# Altium schematic symbol library HTS221.SchLib: 1 symbol
Pins are listed as number, name and electrical type; pins without a type are passive.

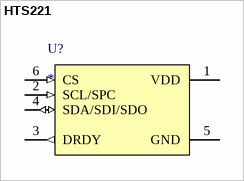
[diagram p0: symbol HTS221]

## HTS221
designator U?
The HTS221 is an ultra compact sensor for  relative humidity and temperature
pins: 1 VDD (power), 2 SCL/SPC (in), 3 DRDY (out), 4 SDA/SDI/SDO (io), 5 GND (power), 6 CS (in)